# Altium footprint library AdMainFPLibG_1.0.PcbLib: 24 footprints (part 1 of 2)
Each footprint in its own frame and in the unit in brackets; x right, y up, seen from the top. Pads: shape width x height; smd on the part's side, far side on the other; paste and mask are expansions set on the pad; w line width, h text height; cw(c..) or ccw(c..) is an arc to the next point about the centre after c.
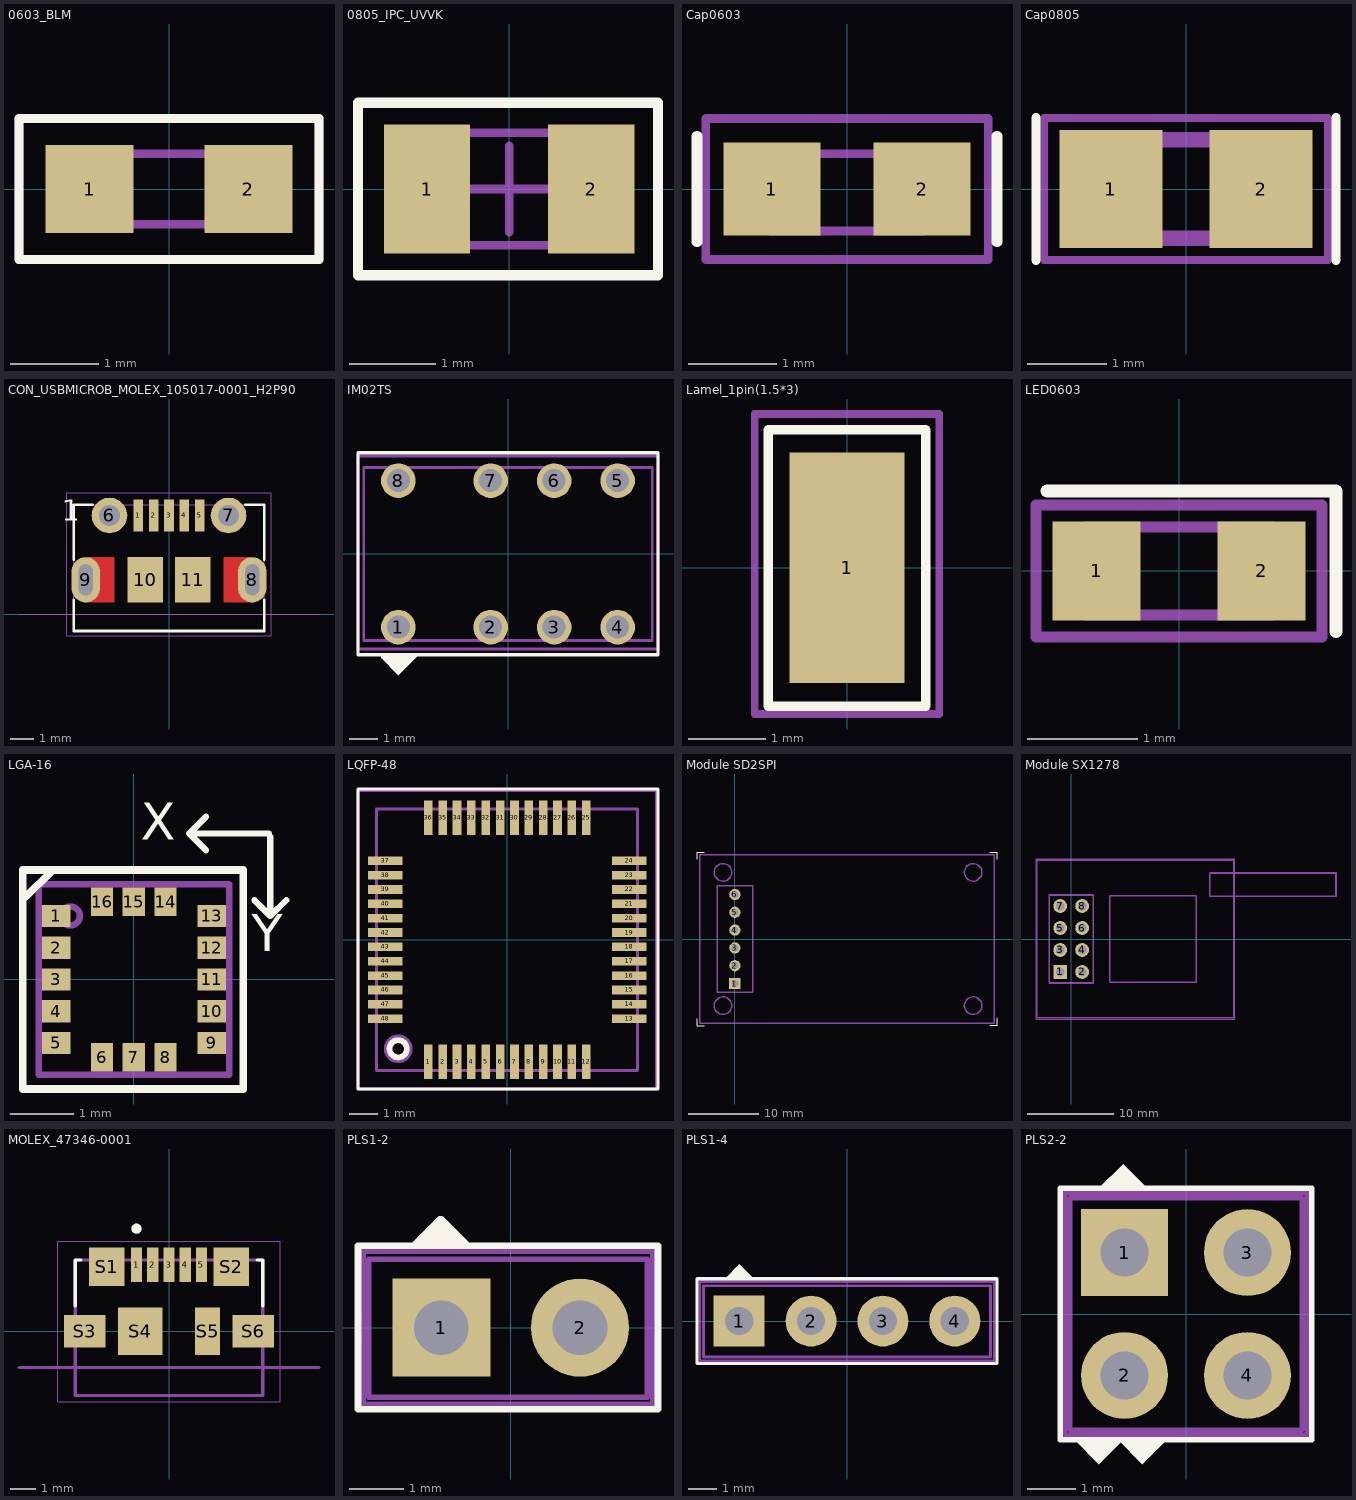
[diagram p0: the footprints below, top view; thin cyan lines are the x and y axes]

## 0603_BLM [mm]
pads (2):
  rect 1x1 smd: 1(-0.9,0) 2(0.9,0)
Top Overlay:
  lines w0.1: -1.7,-0.8 -1.7,0.8 1.7,0.8 1.7,-0.8 -1.7,-0.8
Top Assy:
  lines w0.1: -0.8,-0.4 0.8,-0.4 0.8,0.4 -0.8,0.4 -0.8,-0.4
Border:
  lines w0.1: -1.7,-0.8 1.7,-0.8 1.7,0.8 -1.7,0.8 -1.7,-0.8
3D body "User Library-BLM18K.STEP": height 0.8, standoff 0, extent -0.8,-0.4 0.8,0.4

## 0805_IPC_UVVK [mm]
pads (2):
  rect 1x1.5 smd: 1(-0.95,0) 2(0.95,0)
Top Overlay:
  lines w0.12: -1.75,-1 1.725,-1 1.725,1 -1.75,1 -1.75,-1
Top Assy:
  lines w0.1: -1,-0.65 -1,0.65 1.05,0.65 1.05,-0.65 -1,-0.65
Border:
  lines w0.1: -0.5,0 0.5,0 ; 0,-0.5 0,0.5 ; 0,-0.2 0,0.2 ; -1.75,-1 1.725,-1 1.725,1 -1.75,1 -1.75,-1
3D body "User Library-CR2012-0805.STEP": height 0.6, standoff 0, extent -1,-0.625 1,0.625

## Cap0603 [mm] "CC0603KRX7R9BB104"
pads (2):
  rect 1.1x1.05 smd paste+0: 1(-0.85,0)
  rect 1.1x1.05 smd: 2(0.85,0)
Top Overlay:
  lines w0.12: -1.7,-0.6 -1.7,0.6 ; 1.7,-0.6 1.7,0.6
Top Assy:
  lines w0.1: -0.875,0.4 -0.875,-0.475 ; -0.85,0.4 0.875,0.4 0.875,-0.475 -0.875,-0.475 ; -0.875,-0.475 -0.875,-0.475
Border:
  lines w0.1: -1.6,-0.8 -1.6,0.8 ; -1.6,-0.8 1.6,-0.8 ; -1.6,-0.8 -1.6,0.8 ; -1.6,-0.8 1.6,-0.8 ; -1.6,0.8 1.6,0.8 ; -1.6,0.8 1.6,0.8 ; 1.6,-0.8 1.6,0.8 ; 1.6,-0.8 1.6,0.8
3D body "c0603c472k5ractu.stp": height 0.95, standoff 0, extent -0.875,-0.475 0.875,0.395

## Cap0805 [mm] "CC0805KKX7R6BB106"
pads (2):
  rect 1.3x1.5 smd: 1(-0.95,0) 2(0.95,0)
Top Overlay:
  lines w0.12: -1.9,-0.9 -1.9,0.9 ; 1.9,-0.9 1.9,0.9
Top Assy:
  lines w0.2: -1,-0.625 1,-0.625 1,0.625 -1,0.625 -1,-0.625
Border:
  lines w0.1: -1.8,-0.9 1.8,-0.9 1.8,0.9 -1.8,0.9 -1.8,-0.9
3D body "User Library-C0805-2.STEP": height 0.8, standoff 0, extent -1,-0.625 1,0.625

## CON_USBMICROB_MOLEX_105017-0001_H2P90 [mm]
pads (11):
  rect 0.4x1.35 smd mask+0.05: 1(-1.3,4.15) 2(-0.65,4.15) 3(0,4.15) 4(0.65,4.15) 5(1.3,4.15)
  round 1.5 hole 0.9 mask+0.05: 6(-2.5,4.15) 7(2.5,4.15)
  oval 1.2x1.9 hole 0.6 slot 1.3 at 90 deg mask+0.05: 8(3.5,1.45) 9(-3.5,1.45)
  rect 1.5x1.9 smd mask+0.05: 10(-1,1.45) 11(1,1.45)
Top Layer:
  region: 2.3,2.4 3.5,2.4 3.5,0.5 2.3,0.5
  region: -3.5,2.4 -2.3,2.4 -2.3,0.5 -3.5,0.5
Top Overlay:
  lines w0.12: -4,0.6 -4,-0.7 4,-0.7 4,0.6 ; -4,2.3 -4,4.6 -3.2,4.6 ; 3.2,4.6 4,4.6 4,2.3
  text "1" at -4.5,3.625 h1.5
Top Solder:
  region: -3.5,2.45 -2.25,2.45 -2.25,0.45 -3.5,0.45
  region: 2.25,2.45 3.5,2.45 3.5,0.45 2.25,0.45
Mechanical 7:
  lines w0.01: -6.3,0 6.3,0
  text "PCB" at -6.25,-0.725 h1
  text "EDGE" at 4.35,-0.7 h1
Mechanical 14:
  lines w0.01: -4,-0.7 -4,4.6 4,4.6 4,-0.7 -4,-0.7
  text "5" at 1,3.55 h1.5
  text "1" at -1.55,3.55 h1.5
  text "'.Designator'" at -2,-0.5 h0.75
Mechanical 16:
  lines w0.01: -4.3,-0.9 -4.3,5.1 4.3,5.1 4.3,-0.9 -4.3,-0.9
3D body "MOLEX_105017-0001.stp": height 2.63, standoff -0.67, extent -4.1,-1.15 4.1,4.25
3D body: height 2.9, standoff 0, extent -3.999,0.001 3.999,4.599
3D body: height 2.9, standoff 0, extent -4.06,-0.76 4.06,4.66

## IM02TS [mm] "IM02TS (THT VERSION)"
height 5.65
pads (8):
  round 1.2 hole 0.8: 1(-3.8,-2.54) 2(-0.6,-2.54) 3(1.6,-2.54) 4(3.8,-2.54) 5(3.8,2.54) 6(1.6,2.54) 7(-0.6,2.54) 8(-3.8,2.54)
Top Overlay:
  region: -4.4,-3.5 -4.4,-3.6 -3.8,-4.2 -3.1,-3.5
  lines w0.12: -5.2,-3.5 5.2,-3.5 5.2,3.5 -5.2,3.5 -5.2,-3.5
Top Assy:
  lines w0.1: -5,-3 5,-3 5,3 -5,3 -5,-3
Border:
  lines w0.1: -5.2,-3.3 5.2,-3.3 5.2,3.4 -5.2,3.4 -5.2,-3.3
3D body "34m6458_im01ts.stp": height 4.65, standoff -4.2, extent -4.995,-3.042 5.005,2.958

## Lamel_1pin(1.5*3) [mm]
pads (1):
  rect 1.5x3 smd: 1(0,0)
Top Overlay:
  lines w0.12: -1.025,-1.8 1.025,-1.8 1.025,1.795 -1.025,1.795 -1.025,-1.8
Border:
  lines w0.1: -1.2,-1.9 1.2,-1.9 1.2,2 -1.2,2 -1.2,-1.9

## LED0603 [mm] "Led_19/213_EVERLIGHT"
pads (2):
  rect 0.8x0.9 smd: 1(-0.75,0) 2(0.75,0)
Top Overlay:
  lines w0.12: -1.2,0.725 1.4,0.725 ; 1.425,-0.55 1.425,0.725
Top Assy:
  lines w0.1: -0.85,-0.4 -0.85,0.4 0.85,0.4 0.85,-0.4 -0.85,-0.4
Border:
  lines w0.1: -1.3,-0.6 1.3,-0.6 1.3,0.6 -1.3,0.6 -1.3,-0.6
3D body "User Library-LED SMD0603.STEP": height 0.68, standoff 0, extent -0.833,-0.368 0.817,0.357

## LGA-16 [mm] "LIS3DHTR (3*3)"
pads (16):
  rect 0.45x0.35 smd paste-1 mask+0.05: 1(-1.225,1)
  rect 0.45x0.35 smd mask+0.05: 2(-1.225,0.5) 3(-1.225,0) 4(-1.225,-0.5) 5(-1.225,-1) 9(1.225,-1) 10(1.225,-0.5) 11(1.225,0) 12(1.225,0.5) 13(1.225,1)
  rect 0.35x0.45 smd mask+0.05: 6(-0.5,-1.225) 7(0,-1.225) 8(0.5,-1.225) 14(0.5,1.225) 15(0,1.225) 16(-0.5,1.225)
Top Overlay:
  lines w0.1: 1.138,2.038 0.875,2.3 ; 1.138,2.562 0.875,2.3 ; 1.9,1.25 2.15,1 ; 2.125,2.3 0.875,2.3 ; 2.15,2.25 2.15,1 ; 2.4,1.25 2.15,1
  lines w0.12: -1.7,1.3 -1.3,1.7 ; -1.75,-1.725 -1.75,1.725 1.725,1.725 1.725,-1.725 -1.75,-1.725
  text "X" at 0.107,2 h1
  text "Y" at 1.857,0.25 h1
Top Assy:
  circle w0.1: c-1,1 r0.15
  lines w0.1: -1.5,-1.5 -1.5,1.5 1.5,1.5 1.5,-1.5 -1.5,-1.5
Border:
  lines w0.1: -1.5,-1.5 -1.5,1.5 1.5,1.5 1.5,-1.5 -1.5,-1.5
3D body "User Library-LIS331AL.STEP": height 1.01, standoff -0.01, extent -1.5,-1.5 1.5,1.5

## LQFP-48 [mm] "Dest: STM32F103C8T6 - (7*7)"
pads (48):
  rect 0.3x1.2 smd: 1(-2.75,-4.25) 2(-2.25,-4.25) 3(-1.75,-4.25) 4(-1.25,-4.25) 5(-0.75,-4.25) 6(-0.25,-4.25) 7(0.25,-4.25) 8(0.75,-4.25) 9(1.25,-4.25) 10(1.75,-4.25) 11(2.25,-4.25) 12(2.75,-4.25) 25(2.75,4.25) 26(2.25,4.25) 27(1.75,4.25) 28(1.25,4.25) 29(0.75,4.25) 30(0.25,4.25) 31(-0.25,4.25) 32(-0.75,4.25) 33(-1.25,4.25) 34(-1.75,4.25) 35(-2.25,4.25) 36(-2.75,4.25)
  rect 1.2x0.3 smd: 13(4.25,-2.75) 14(4.25,-2.25) 15(4.25,-1.75) 16(4.25,-1.25) 17(4.25,-0.75) 18(4.25,-0.25) 19(4.25,0.25) 20(4.25,0.75) 21(4.25,1.25) 22(4.25,1.75) 23(4.25,2.25) 24(4.25,2.75) 37(-4.25,2.75) 38(-4.25,2.25) 39(-4.25,1.75) 40(-4.25,1.25) 41(-4.25,0.75) 42(-4.25,0.25) 43(-4.25,-0.25) 44(-4.25,-0.75) 45(-4.25,-1.25) 46(-4.25,-1.75) 47(-4.25,-2.25) 48(-4.25,-2.75)
Top Overlay:
  circle w0.2: c-3.8,-3.8 r0.3
  lines w0.12: -5.2,5.2 -5.2,-5.2 5.25,-5.2 5.25,5.2 ; -5.2,5.25 5.25,5.25
Top Assy:
  circle w0.2: c-3.8,-3.8 r0.4
  lines w0.1: -4.559,-4.559 4.541,-4.559 4.541,4.559 -4.546,4.559 -4.559,4.546 -4.559,-4.559
Border:
  lines w0.1: -5.2,-5.2 5.2,-5.2 5.2,5.2 -5.2,5.2 -5.2,-5.2
3D body "User Library-LQFP48_Grid_0_5.STEP": height 1.6, standoff 0, extent -4.5,-4.5 4.5,4.5

## Module SD2SPI [mm] "Arduino MicroSD to SPI Card reader 42*24*12mm"
pads (6):
  rect 1.6x1.6 hole 1: 1(0,-6.35)
  round 1.6 hole 1: 2(0,-3.81) 3(0,-1.27) 4(0,1.27) 5(0,3.81) 6(0,6.35)
Top Overlay:
  lines w0.12: -5.4,-11.4 -5.4,-12.4 -4.4,-12.4 ; -5.4,11.4 -5.4,12.4 -4.4,12.4 ; 36.4,-12.3 37.4,-12.3 37.4,-11.3 ; 36.4,12.4 37.4,12.4 37.4,11.4
Top Assy:
  circle w0.2: c-1.687,-9.5 r1.25
  circle w0.2: c-1.687,9.5 r1.25
  circle w0.2: c34,-9.5 r1.25
  circle w0.2: c34,9.5 r1.25
  lines w0.2: -5,-12 37,-12 37,12 -5,12 -5,-12 ; -2.54,-7.62 -2.54,7.62 2.54,7.62 2.54,-7.62 -2.54,-7.62
Border:
  lines w0.1: -5,-12 -5,12 37,12 37,-12 -5,-12

## Module SX1278 [mm] "Ra-01"
pads (8):
  rect 1.6x1.6 hole 1 mask+0.15: 1(-1.27,-3.81)
  round 1.6 hole 1 mask+0.15: 2(1.27,-3.81) 3(-1.27,-1.27) 4(1.27,-1.27) 5(-1.27,1.27) 6(1.27,1.27) 7(-1.27,3.81) 8(1.27,3.81)
Bottom Overlay:
  text "1 - GND / 2 - VCC / 3 - RST / 4 - NSS / 5 - SCK / 6 - MOSI / 7 - MISO / 8 - DIO0" at 3.1,3.2 h1
Top Assy:
  lines w0.2: -4,-9.1 -4,9.1 18.8,9.1 18.8,-9.1 -4,-9.1 ; -2.54,-5.08 -2.54,5.08 2.54,5.08 2.54,-5.08 -2.54,-5.08 ; 4.445,-5 4.445,5 14.445,5 14.445,-5 4.445,-5 ; 16.002,4.953 16.002,7.62 30.607,7.62 30.607,4.953 16.002,4.953
Border:
  lines w0.1: -4.064,-9.271 18.923,-9.271 18.923,9.271 -4.064,9.271 -4.064,-9.271

## MOLEX_47346-0001 [mm] "Molex MicroUSB 473460001"
pads (11):
  rect 0.45x1.38 smd: 1(-1.3,2.66) 2(-0.65,2.66) 3(0,2.66) 4(0.65,2.66) 5(1.3,2.66)
  rect 1.425x1.55 smd: S1(-2.488,2.575) S2(2.488,2.575)
  rect 1.65x1.3 smd: S3(-3.375,0) S6(3.375,0)
  rect 1.8x1.9 smd: S4(-1.15,0)
  rect 1x1.9 smd: S5(1.55,0)
Top Overlay:
  circle w0.2: c-1.3,4.1 r0.1
  lines w0.127: -3.75,1 -3.75,2.85 -3.52,2.85 ; 3.52,2.85 3.75,2.85 3.75,1
Mechanical 13:
  circle w0.2: c-1.3,4.1 r0.1
  lines w0.127: -6,-1.45 6,-1.45 ; -3.75,-2.58 3.75,-2.58 3.75,2.85 -3.75,2.85 -3.75,-2.58
  text "PCB EDGE" at 4.5,-1.25 h0.41
Mechanical 15:
  lines w0.05: -4.45,-2.83 -4.45,3.6 4.45,3.6 4.45,-2.83 -4.45,-2.83
3D body "step_temp.STEP": height 2.7, standoff -0.25, extent -4.18,-2.93 4.18,2.5

## PLS1-2 [mm] "1R2 ( pitch 2.54mm) KLS1-207-1-2S"
pads (2):
  rect 1.8x1.8 hole 1 mask+0.102: 1(-1.27,0)
  round 1.8 hole 1: 2(1.27,0)
Top Overlay:
  region: -1.8,1.5 -1.3,2 -0.8,1.5
  lines w0.1: -1.8,1.5 -1.3,2 -1.27,2 ; -1.27,1.97 -1.27,2 ; -0.8,1.53 -1.27,2
  lines w0.12: -2.8,-1.5 -2.8,1.5 2.7,1.5 2.7,-1.5 -2.8,-1.5
Top Assy:
  lines w0.1: -2.6,-1.275 2.5,-1.275 2.5,1.25 -2.6,1.25 -2.6,-1.275
Border:
  lines w0.1: -2.7,-1.4 -2.7,1.4 2.6,1.4 2.6,-1.4 -2.7,-1.4
3D body "User Library-PLS-2.STEP": height 8.54, standoff -3, extent -2.54,-1.27 2.54,1.27

## PLS1-4 [mm] "1R4 ( pitch 2.54mm) KLS1-207-1-4S"
pads (4):
  rect 1.8x1.8 hole 1: 1(-3.81,0)
  round 1.8 hole 1: 2(-1.27,0) 3(1.27,0) 4(3.81,0)
Top Overlay:
  region: -4.3,1.5 -3.8,2 -3.3,1.5
  lines w0.12: -5.3,-1.5 -5.3,1.5 5.3,1.5 5.3,-1.5 -5.3,-1.5
Top Assy:
  lines w0.1: -5.075,-1.275 5.075,-1.275 5.075,1.25 -5.075,1.25 -5.075,-1.275
Border:
  lines w0.1: -5.2,-1.4 -5.2,1.4 5.2,1.4 5.2,-1.4 -5.2,-1.4
3D body "User Library-1x4 TH Pitch 2_54mm.STEP": height 9.2, standoff -3.5, extent -5.08,-1.27 5.08,1.27

## PLS2-2 [mm] "2R2 ( pitch 2.54mm) KLS1-207-2-2S"
pads (4):
  rect 1.8x1.8 hole 1: 1(-1.27,1.27)
  round 1.8 hole 1: 2(-1.27,-1.27) 3(1.27,1.27) 4(1.27,-1.27)
Top Overlay:
  region: -1.8,2.6 -1.3,3.1 -0.8,2.6
  region: -1.3,-2.6 -1.8,-3.1 -2.3,-2.6
  region: -0.4,-2.6 -0.9,-3.1 -1.4,-2.6
  lines w0.12: -2.6,-2.6 2.6,-2.6 2.6,2.6 -2.6,2.6 -2.6,-2.6
Top Assy:
  lines w0.1: -2.4,-2.4 -2.4,2.4 2.4,2.4 2.4,-2.4 -2.4,-2.4
Border:
  lines w0.1: -2.5,-2.5 2.5,-2.5 2.5,2.5 -2.5,2.5 -2.5,-2.5
3D body "User Library-PLS-2.STEP": height 8.54, standoff -3, extent 0,-2.54 2.54,2.54
3D body "User Library-PLS-2.STEP": height 8.54, standoff -3, extent -2.54,-2.54 0,2.54